# Altium footprint library Micro_CoaxiaL_Receptacle_3P.PcbLib: 1 footprints
Each footprint in its own frame and in the unit in brackets; x right, y up, seen from the top. Pads: shape width x height; smd on the part's side, far side on the other; paste and mask are expansions set on the pad; w line width, h text height; cw(c..) or ccw(c..) is an arc to the next point about the centre after c.
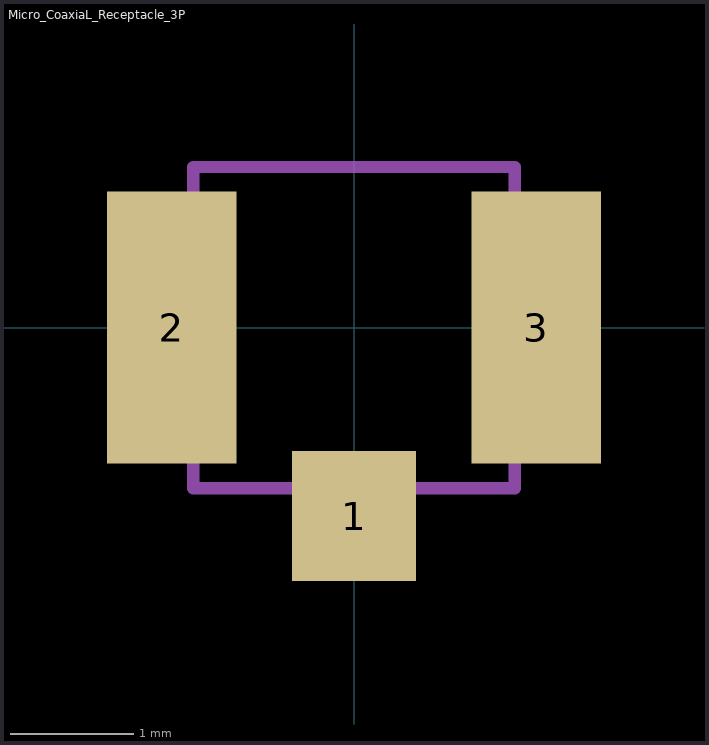
[diagram p0: the footprint, top view; thin cyan lines are the x and y axes]

## Micro_CoaxiaL_Receptacle_3P [mm]
height 1.25
pads (3):
  rect 1x1.05 smd: 1(0,-1.525)
  rect 1.05x2.2 smd: 2(-1.475,0) 3(1.475,0)
Mechanical 13:
  lines w0.1: -1.3,-1.3 -1.3,1.3 1.3,1.3 1.3,-1.3 -1.3,-1.3
3D body: height 0.35, standoff 0, extent -1.299,-1.299 1.3,1.3
3D body: height 1, standoff 0.1, extent -0.256,-0.272 0.253,0.237
3D body: height 1.3, standoff 0.1, extent -1.126,-1.116 1.102,1.113